# Altium footprint library Switches.PcbLib: 9 footprints
Each footprint in its own frame and in the unit in brackets; x right, y up, seen from the top. Pads: shape width x height; smd on the part's side, far side on the other; paste and mask are expansions set on the pad; w line width, h text height; cw(c..) or ccw(c..) is an arc to the next point about the centre after c.
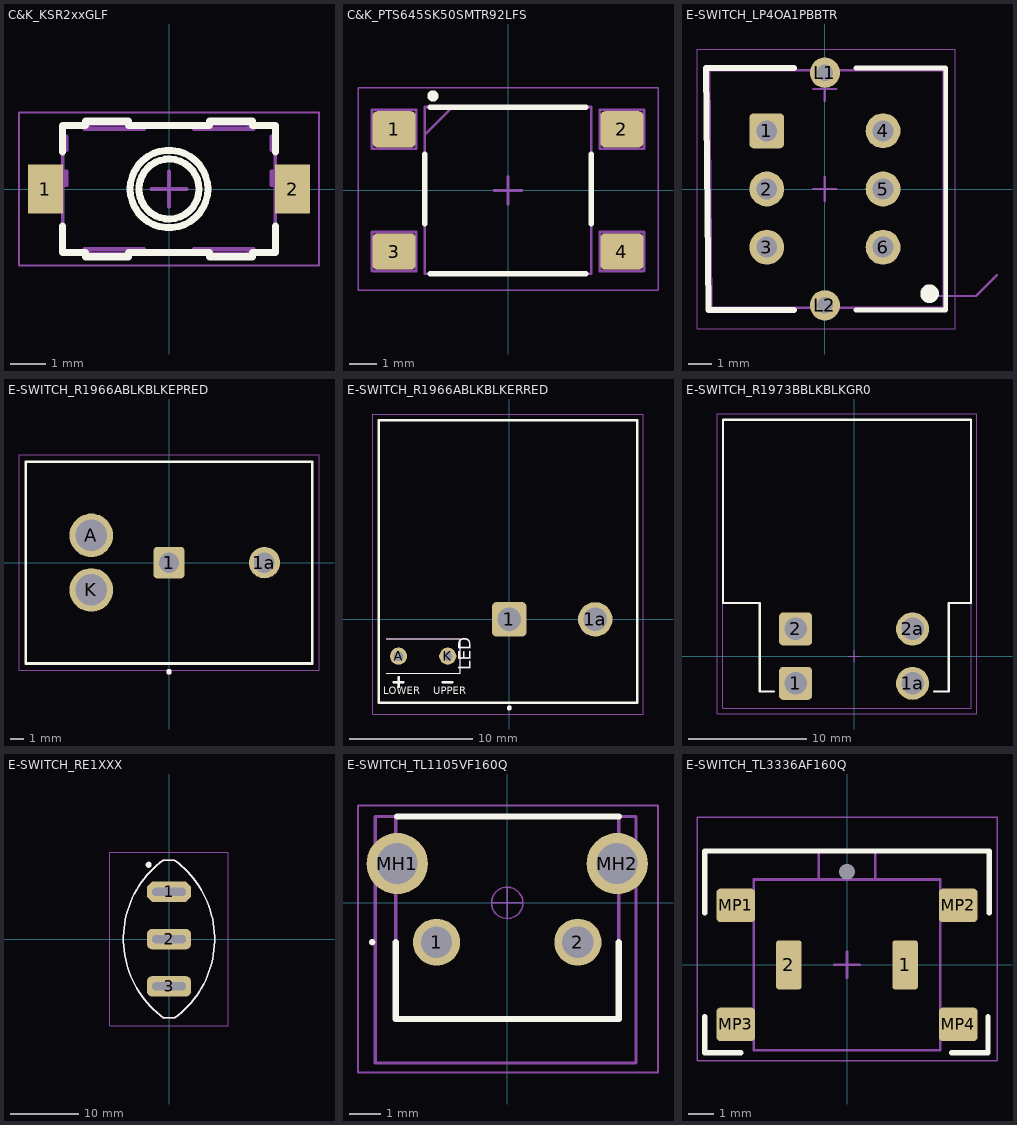
[diagram p0: the footprints below, top view; thin cyan lines are the x and y axes]

## C&K_KSR2xxGLF [mm] "Tactile Switch SPST-NO Top Actuated Surface Mount"
height 2.5
pads (2):
  rrect5% 1x1.4 smd paste+0 mask+0.05: 1(-3.5,0) 2(3.5,0)
Top Overlay:
  circle w0.2: c0,0 r0.85
  circle w0.2: c0,0 r1.1
  lines w0.2: -3.015,-1.05 -3.015,-1.8 -2.36,-1.8 -2.36,-1.92 -1.15,-1.92 -1.15,-1.8 1.15,-1.8 1.15,-1.92 2.36,-1.92 2.36,-1.8 3.015,-1.8 3.015,-1.05 ; -3.015,1.05 -3.015,1.8 -2.36,1.8 -2.36,1.92 -1.15,1.92 -1.15,1.8 1.15,1.8 1.15,1.92 2.36,1.92 2.36,1.8 3.015,1.8 3.015,1.05
Top Component Outline:
  circle w0.1: c0,0 r0.85
  circle w0.1: c0,0 r1.1
  lines w0.1: -3.015,-0.495 -3.65,-0.495 -3.65,0.495 -3,0.495 ; -3,0.1 -3,0.5 ; -3,1.1 -3,1.315 ; -3,1.5 -3,1.3 cw(c-3,1) -2.9,1.283 ; -2.4,-1.8 -2.4,-1.7 -0.7,-1.7 -0.7,-1.8 ; -2.4,1.8 -2.4,1.7 -0.7,1.7 -0.7,1.8 ; -2.36,-1.8 -3.015,-1.8 -3.015,0.1 -2.9,0.1 -2.9,0.5 -3.015,0.5 -3.015,1.1 -2.9,1.1 -2.9,1.5 -3.015,1.5 -3.015,1.8 -2.36,1.8 ; -2.36,-1.7 -2.36,-1.92 -1.15,-1.92 -1.15,-1.825 ; -2.36,1.7 -2.36,1.92 -1.15,1.92 -1.15,1.825 ; -2.3,-1.7 ccw(c-2.17,-1.695) -2.17,-1.825 -0.88,-1.825 ccw(c-0.88,-1.695) -0.75,-1.7 ; -2.3,1.7 cw(c-2.17,1.695) -2.17,1.825 -0.88,1.825 cw(c-0.88,1.695) -0.75,1.7 ; -0.803,-1.8 0.803,-1.8 ; -0.803,1.8 0.803,1.8 ; 0.7,-1.8 0.7,-1.7 2.4,-1.7 2.4,-1.8 ; 0.7,1.8 0.7,1.7 2.4,1.7 2.4,1.8 ; 0.75,-1.7 ccw(c0.88,-1.695) 0.88,-1.825 2.17,-1.825 ccw(c2.17,-1.695) 2.3,-1.7 ; 0.75,1.7 cw(c0.88,1.695) 0.88,1.825 2.17,1.825 cw(c2.17,1.695) 2.3,1.7 ; 1.15,-1.825 1.15,-1.92 2.36,-1.92 2.36,-1.7 ; 1.15,1.825 1.15,1.92 2.36,1.92 2.36,1.7 ; 2.36,-1.8 3.015,-1.8 3.015,0.1 2.9,0.1 2.9,0.5 3.015,0.5 3.015,1.1 2.9,1.1 2.9,1.5 3.015,1.5 3.015,1.8 2.36,1.8 ; 2.9,1.283 cw(c3,1) 3,1.3 3,1.5 ; 3,0.1 3,0.5 ; 3,0.495 3.65,0.495 3.65,-0.495 3.015,-0.495
Top Courtyard:
  lines w0.05: -4.25,-2.17 4.25,-2.17 4.25,2.17 -4.25,2.17 -4.25,-2.17
Top Component Center:
  lines w0.1: -0.5,0 0.5,0 ; 0,-0.5 0,0.5
Top Designator:
  text ".Designator" at -4.04,-0.476 h2
Top Assembly:
  circle w0.1: c0,0 r0.85
  circle w0.1: c0,0 r1.1
  lines w0.1: -3.015,-0.495 -3.65,-0.495 -3.65,0.495 -3,0.495 ; -3,0.1 -3,0.5 ; -3,1.1 -3,1.315 ; -3,1.5 -3,1.3 cw(c-3,1) -2.9,1.283 ; -2.4,-1.8 -2.4,-1.7 -0.7,-1.7 -0.7,-1.8 ; -2.4,1.8 -2.4,1.7 -0.7,1.7 -0.7,1.8 ; -2.36,-1.8 -3.015,-1.8 -3.015,0.1 -2.9,0.1 -2.9,0.5 -3.015,0.5 -3.015,1.1 -2.9,1.1 -2.9,1.5 -3.015,1.5 -3.015,1.8 -2.36,1.8 ; -2.36,-1.7 -2.36,-1.92 -1.15,-1.92 -1.15,-1.825 ; -2.36,1.7 -2.36,1.92 -1.15,1.92 -1.15,1.825 ; -2.3,-1.7 ccw(c-2.17,-1.695) -2.17,-1.825 -0.88,-1.825 ccw(c-0.88,-1.695) -0.75,-1.7 ; -2.3,1.7 cw(c-2.17,1.695) -2.17,1.825 -0.88,1.825 cw(c-0.88,1.695) -0.75,1.7 ; -0.803,-1.8 0.803,-1.8 ; -0.803,1.8 0.803,1.8 ; 0.7,-1.8 0.7,-1.7 2.4,-1.7 2.4,-1.8 ; 0.7,1.8 0.7,1.7 2.4,1.7 2.4,1.8 ; 0.75,-1.7 ccw(c0.88,-1.695) 0.88,-1.825 2.17,-1.825 ccw(c2.17,-1.695) 2.3,-1.7 ; 0.75,1.7 cw(c0.88,1.695) 0.88,1.825 2.17,1.825 cw(c2.17,1.695) 2.3,1.7 ; 1.15,-1.825 1.15,-1.92 2.36,-1.92 2.36,-1.7 ; 1.15,1.825 1.15,1.92 2.36,1.92 2.36,1.7 ; 2.36,-1.8 3.015,-1.8 3.015,0.1 2.9,0.1 2.9,0.5 3.015,0.5 3.015,1.1 2.9,1.1 2.9,1.5 3.015,1.5 3.015,1.8 2.36,1.8 ; 2.9,1.283 cw(c3,1) 3,1.3 3,1.5 ; 3,0.1 3,0.5 ; 3,0.495 3.65,0.495 3.65,-0.495 3.015,-0.495
  text ".Designator" at -4.04,-0.476 h2
3D body "C&K_KSR221GLFS.step": height 2.5, standoff 0, extent -3.65,-1.92 3.65,1.92

## C&K_PTS645SK50SMTR92LFS [mm] "Tactile Switch SPST-NO Top Actuated Surface Mount"
height 5
pads (4):
  rrect25% 1.55x1.3 smd paste+0 mask+0.05: 1(-4.1,2.2) 2(4.1,2.2) 3(-4.1,-2.2) 4(4.1,-2.2)
Top Overlay:
  circle w0.2: c-2.7,3.4 r0.1
  lines w0.2: -3,-1.2 -3,1.3 ; -2.8,-3 2.8,-3 ; -2.8,3 2.8,3 ; 3,-1.2 3,1.3
Top Component Outline:
  lines w0.1: -3,2 -2,3 ; -3,-3 3,-3 3,3 -3,3 -3,-3
Top Courtyard:
  lines w0.05: -5.4,-3.6 5.4,-3.6 5.4,3.7 -5.4,3.7 -5.4,-3.6
Top Component Center:
  lines w0.1: -0.5,0 0.5,0 ; 0,-0.5 0,0.5
Top Designator:
  text ".Designator" at -4.04,-0.476 h2
Top Assembly:
  lines w0.1: -3,2 -2,3 ; -4.9,-2.9 -4.9,-1.5 -3.3,-1.5 -3.3,-2.9 -4.9,-2.9 ; -4.9,1.5 -4.9,2.9 -3.3,2.9 -3.3,1.5 -4.9,1.5 ; -3,-3 3,-3 3,3 -3,3 -3,-3 ; 3.3,-2.9 3.3,-1.5 4.9,-1.5 4.9,-2.9 3.3,-2.9 ; 3.3,1.5 3.3,2.9 4.9,2.9 4.9,1.5 3.3,1.5
  text ".Designator" at -4.04,-0.476 h2
3D body "C&K_PTS645SK50SMTR92LFS.step": height 5, standoff 0, extent -4.5,-3 4.5,3

## E-SWITCH_LP4OA1PBBTR [mm] "E-Switch LP4OA1PBBTR"
height 13.5
pads (8):
  rrect25% 1.5x1.5 hole 0.9 paste-1000 mask+0.05: 1(-2.5,2.5)
  round 1.5 hole 0.9 paste-1000 mask+0.05: 2(-2.5,0) 3(-2.5,-2.5) 4(2.5,2.5) 5(2.5,0) 6(2.5,-2.5)
  round 1.3 hole 0.7 paste-1000 mask+0.05: L1(0,5) L2(0,-5)
Top Overlay:
  circle w0.5: c4.5,-4.5 r0.15
  lines w0.2: 1.325,-5.2 5.2,-5.2 5.2,5.2 1.325,5.2
  lines w0.254: -1.325,-5.2 -5.007,-5.2 -5.107,5.2 -1.325,5.2
Top Component Outline:
  lines w0.1: -4.979,5.1 5.1,5.1 5.1,-5.1 -4.881,-5.1 -4.979,5.1
Top Courtyard:
  lines w0.05: -5.5,-6 5.6,-6 5.6,6 -5.5,6 -5.5,-6
Top Component Center:
  lines w0.1: -0.5,0 0.5,0 ; 0,-0.5 0,0.5
Top Designator:
  text ".Designator" at -4.04,-0.476 h2
Top Assembly:
  circle w0.3: c4.6,-4.6 r0.1
  lines w0.1: -0.5,-4.7 0.5,-4.7 ; -0.5,4.3 0.5,4.3 ; 0,3.8 0,4.8 ; 4.6,-4.6 6.5,-4.6 7.4,-3.7 ; -5,-5.1 -5,5.1 5.1,5.1 5.1,-5.1 -5,-5.1
  text "RED DOT DENOTES / LED CATHODE" at 6.058,-4.427 h1.5
  text ".Designator" at -4.04,-0.476 h2
3D body "E-SWITCH_LP4xx1PxBxx.step": height 13.5, standoff -3.5, extent -4.945,-5.119 5.055,5.131
3D body: height 13.51, standoff 11.51, extent -3.755,-3.8 3.825,3.78

## E-SWITCH_R1966ABLKBLKEPRED [mm] "Rocker Switch SPST Illuminated E-Switch R1966ABLKBLKEPRED"
height 19.972
pads (4):
  rrect25% 2.3x2.3 hole 1.5 paste-1000 mask+0.05: 1(0,0)
  round 2.3 hole 1.5 paste-1000 mask+0.05: 1a(7,0)
  round 3.2 hole 2.3 paste-1000 mask+0.05: A(-5.7,2) K(-5.7,-2)
Top Overlay:
  circle w0.2: c0,-8 r0.1
  lines w0.2: -10.5,-7.4 10.5,-7.4 10.5,7.4 -10.5,7.4 -10.5,-7.4
Top Component Outline:
  circle w0.2: c0,-8 r0.1
  lines w0.1: -10.5,-7.4 10.5,-7.4 10.5,7.4 -10.5,7.4 -10.5,-7.4
Top Courtyard:
  lines w0.05: -11,-7.9 -11,7.9 11,7.9 11,-7.9 -11,-7.9
Top Component Center:
  lines w0.1: -0.5,0 0.5,0 ; 0,-0.5 0,0.5
Top Designator:
  text ".Designator" at -4.04,-0.476 h2
Top Assembly:
  circle w0.2: c0,-8 r0.1
  lines w0.1: -10.5,-7.4 10.5,-7.4 10.5,7.4 -10.5,7.4 -10.5,-7.4
  text ".Designator" at -4.04,-0.476 h2
3D body "E-SWITCH_R1966ABLKBLKEPRED.step": height 19.97, standoff -13.38, extent -10.55,-7.4 10.55,7.4

## E-SWITCH_R1966ABLKBLKERRED [mm] "Rocker Switch SPST Illuminated E-Switch R1966ABLKBLKERRED"
height 5.265
pads (4):
  rrect25% 2.8x2.8 hole 1.9 paste-1000 mask+0.05: 1(0,0)
  round 2.8 hole 1.9 paste-1000 mask+0.05: 1a(7,0)
  round 1.4 hole 0.8 paste-1000 mask+0.05: A(-9,-3) K(-5,-3)
Top Overlay:
  circle w0.2: c0,-7.2 r0.1
  lines w0.1: -10,-4.4 -4,-4.4 -4,-1.6 -10,-1.6
  lines w0.2: -9.381,-5.1 -8.619,-5.1 ; -9,-5.481 -9,-4.719 ; -5.4,-5.1 -4.638,-5.1 ; -10.6,-6.8 -10.6,16.2 10.4,16.2 10.4,-6.8 -10.6,-6.8
  text "LED" at -2.777,-4.126 h1.75
  text "UPPER" at -6.189,-6.294 h1
  text "LOWER" at -10.261,-6.299 h1
Top Component Outline:
  circle w0.1: c7,0 r1
  circle w0.1: c0,0 r1
  circle w0.1: c-9,-3 r0.4
  circle w0.1: c-5,-3 r0.4
  circle w0.2: c0,-7.2 r0.1
  lines w0.1: -10,-4.4 -4,-4.4 -4,-1.6 -10,-1.6 ; -10.6,-6.8 -10.6,16.2 10.4,16.2 10.4,-6.8 -10.6,-6.8
  lines w0.2: -9.381,-5.1 -8.619,-5.1 ; -9,-5.481 -9,-4.719 ; -5.4,-5.1 -4.638,-5.1
  text "UPPER" at -6.189,-6.294 h1
  text "LOWER" at -10.261,-6.299 h1
  text "LED" at -2.777,-4.126 h1.75
Top Courtyard:
  lines w0.05: -11.1,-7.7 10.9,-7.7 10.9,16.7 -11.1,16.7 -11.1,-7.7
Top Component Center:
  lines w0.1: -0.5,0 0.5,0 ; 0,-0.5 0,0.5
Top Designator:
  text ".Designator" at -4.04,-0.476 h2
Top Assembly:
  circle w0.1: c7,0 r1
  circle w0.1: c0,0 r1
  circle w0.1: c-9,-3 r0.4
  circle w0.1: c-5,-3 r0.4
  circle w0.2: c0,-7.2 r0.1
  lines w0.1: -10,-4.4 -4,-4.4 -4,-1.6 -10,-1.6 ; -10.6,-6.8 -10.6,16.2 10.4,16.2 10.4,-6.8 -10.6,-6.8
  lines w0.2: -9.381,-5.1 -8.619,-5.1 ; -9,-5.481 -9,-4.719 ; -5.4,-5.1 -4.638,-5.1
  text "LED" at -2.777,-4.126 h1.75
  text "UPPER" at -6.189,-6.294 h1
  text "LOWER" at -10.261,-6.299 h1
  text ".Designator" at -4.04,-0.476 h2
3D body "E-SWITCH_R1966ABLKBLKERRED.step": height 14.13, standoff -5.26, extent -10.55,-4.214 10.55,21.797

## E-SWITCH_R1973BBLKBLKGR0 [mm] "Rocker Switch DPST E-Switch R1973BBLKBLKGR0"
height 14.08
pads (4):
  rrect25% 2.8x2.8 hole 1.9 paste-1000 mask+0.05: 1(-4.95,-2.3) 2(-4.95,2.3)
  round 2.8 hole 1.9 paste-1000 mask+0.05: 1a(4.95,-2.3) 2a(4.95,2.3)
Top Overlay:
  lines w0.2: -6.8,-3 -8,-3 -8,4.5 -11.1,4.5 -11.1,20 9.9,20 9.9,4.5 8,4.5 8,-3 6.8,-3
Top Component Outline:
  circle w0.2: c5,-2.3 r1
  circle w0.2: c5,2.3 r1
  lines w0.1: -11.1,-4.4 9.9,-4.4 9.9,20 -11.1,20 -11.1,-4.4 ; -5.9,-3.3 -3.9,-3.3 -3.9,-1.3 -5.9,-1.3 -5.9,-3.3
  lines w0.2: -5.9,1.3 -3.9,1.3 ; -5.9,1.3 -5.9,3.3 ; -5.9,1.3 -3.9,1.3 ; -5.9,1.3 -5.9,3.3 ; -5.9,3.3 -3.9,3.3 ; -5.9,3.3 -3.9,3.3 ; -3.9,1.3 -3.9,3.3 ; -3.9,1.3 -3.9,3.3 ; -5.9,-3.3 -3.9,-3.3 -3.9,-1.3 -5.9,-1.3 -5.9,-3.3
Top Courtyard:
  lines w0.05: -11.6,-4.9 -11.6,20.5 10.4,20.5 10.4,-4.9 -11.6,-4.9
Top Component Center:
  lines w0.1: -0.5,0 0.5,0 ; 0,-0.5 0,0.5
Top Designator:
  text ".Designator" at -4.04,-0.476 h2
Top Assembly:
  circle w0.1: c5,-2.3 r1
  circle w0.1: c5,2.3 r1
  lines w0.1: -11.1,-4.4 9.9,-4.4 9.9,20 -11.1,20 -11.1,-4.4 ; -5.9,-3.3 -3.9,-3.3 -3.9,-1.3 -5.9,-1.3 -5.9,-3.3 ; -5.9,1.3 -3.9,1.3 -3.9,3.3 -5.9,3.3 -5.9,1.3
  text ".Designator" at -4.04,-0.476 h2
3D body "E-SWITCH_R1973BxxxxxxGRx.step": height 14.08, standoff -3.76, extent -11.1,-2.714 10.1,25.829

## E-SWITCH_RE1XXX [mm] "Rocker Switch SPST 10A (AC) 125 V Panel Mount, Snap-In"
height 20.263
pads (3):
  oct 6.5x3 hole 1.2 slot 5 at 0 deg paste-1000 mask+0.05: 1(0,6.963)
  rrect50% 6.5x3 hole 1.2 slot 5 at 0 deg paste-1000 mask+0.05: 2(0,-0.012) 3(0,-6.962)
Top Overlay:
  circle w0.5: c-3,10.963 r0.2
  lines w0.2: -0.833,11.643 ccw(c7.7,0.013) -0.802,-11.641 ; -0.833,11.663 0.806,11.663 cw(c-7.7,0.013) 0.833,-11.618 ; -0.802,-11.637 0.833,-11.637
Top Component Outline:
  lines w0.2: -0.833,11.643 ccw(c7.7,0.013) -0.802,-11.641 ; -0.833,11.663 0.806,11.663 cw(c-7.7,0.013) 0.833,-11.618 ; -0.802,-11.637 0.833,-11.637
Top Courtyard:
  lines w0.05: -8.75,-12.762 -8.75,12.838 8.75,12.838 8.75,-12.762 -8.75,-12.762
Top Component Center:
  circle w0.025: c0,0 r0.5
  lines w0.025: -0.5,0 0,0 ; 0,-0.5 0,0 ; 0,0.5 0,0 ; 0.5,0 0,0
Top Designator:
  text ".Designator" at -4.04,-0.476 h2
Top Assembly:
  lines w0.1: -0.833,11.643 ccw(c7.7,0.013) -0.802,-11.641 ; -0.833,11.663 0.806,11.663 cw(c-7.7,0.013) 0.833,-11.618 ; -0.802,-11.637 0.833,-11.637
  text ".Designator" at -4.04,-0.476 h2
3D body "E-SWITCH_RE1113x023-1xx.step": height 20.26, standoff -7.31, extent -8.75,-12.762 8.747,12.837

## E-SWITCH_TL1105VF160Q [mm] "Tactile Switch SPST-NO Side Actuated TH, Right Angle"
height 7.3
pads (4):
  round 1.5 hole 1 paste-1000 mask+0.05: 1(-2.25,-1.25) 2(2.25,-1.25)
  round 1.95 hole 1.3 paste-1000 mask+0.05: MH1(-3.5,1.25) MH2(3.5,1.25)
Top Overlay:
  lines w0.1: -4.35,-1.25 ccw(c-4.3,-1.25) -4.25,-1.25 ccw(c-4.3,-1.25) -4.35,-1.25
  lines w0.2: -3.55,-1.25 -3.55,-3.7 3.55,-3.7 3.55,-1.25 ; -3.5,2.75 3.55,2.75
Top Component Outline:
  lines w0.1: -3.55,-3.7 -3.55,2.75 3.55,2.75 3.55,-3.7 -3.55,-3.7
Top Courtyard:
  lines w0.05: -4.75,-5.4 -4.75,3.1 4.8,3.1 4.8,-5.4 -4.75,-5.4
Top Component Center:
  circle w0.05: c0,0 r0.5
  lines w0.05: -0.5,0 0.5,0 ; 0,-0.5 0,0.5
Top Designator:
  text ".Designator" at -4.04,-0.476 h2
Top Assembly:
  lines w0.1: -4.2,-5.1 -4.2,2.75 4.1,2.75 4.1,-5.1 -4.2,-5.1
  text ".Designator" at -4.04,-0.476 h2
3D body "E-SWITCH_TL1105VFxxxx.step": height 7.3, standoff -3.7, extent -4.251,-5.065 4.151,2.785

## E-SWITCH_TL3336AF160Q [mm] "Tactile Switch SPST-NO Side Actuated Surface Mount, Right Angle"
height 7.115
pads (7):
  rrect25% 1x1.9 smd paste+0 mask+0.05: 1(2.25,0) 2(-2.25,0)
  rrect25% 0x0 hole 0.6 square unplated paste-1000 mask+0: MH1(0,3.6)
  rrect25% 1.5x1.3 smd paste+0 mask+0.05: MP1(-4.3,2.3) MP2(4.3,2.3) MP3(-4.3,-2.3) MP4(4.3,-2.3)
Top Overlay:
  lines w0.2: -5.5,-2 -5.5,-3.4 -4.1,-3.4 ; -5.5,2 -5.5,4.4 5.5,4.4 5.5,2 ; 4.048,-3.4 5.448,-3.4 5.448,-2
Top Component Outline:
  lines w0.1: -3.6,-3.3 3.6,-3.3 3.6,3.3 -3.6,3.3 -3.6,-3.3
Top Courtyard:
  lines w0.05: -5.8,-3.7 5.8,-3.7 5.8,5.7 -5.8,5.7 -5.8,-3.7
Top Component Center:
  lines w0.1: -0.5,0 0.5,0 ; 0,-0.5 0,0.5
Top Designator:
  text ".Designator" at -4.04,-0.476 h2
Top Assembly:
  lines w0.1: -1.1,3.3 -1.1,4.4 1.1,4.4 1.1,3.3 ; -3.6,-3.3 3.6,-3.3 3.6,3.3 -3.6,3.3 -3.6,-3.3
  text ".Designator" at -4.04,-0.476 h2
3D body "E-SWITCH_TL3336AFxxxQ.step": height 7.11, standoff -0.99, extent -4.75,-2.781 4.75,5.722